# EAGLE library part 74*4040 (library 74)
12-bit asynchronous binary COUNTER
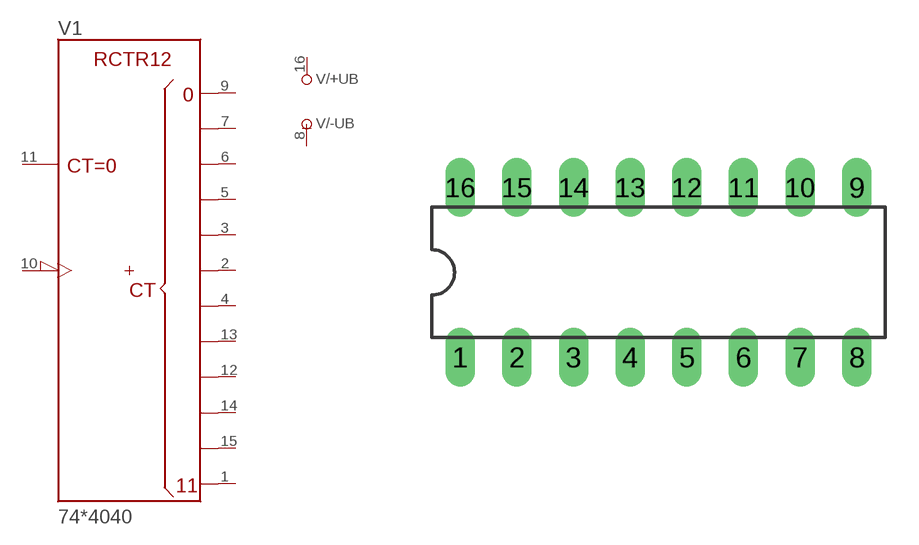
[diagram p121: symbol with the pads of DIL16; footprint DIL16]

Designator prefix V; gates /+UB=+UB /-UB=-UB 1=4040

## 744040N  [DIL16]
1  1:QL  out
2  1:QF  out
3  1:QE  out
4  1:QG  out
5  1:QD  out
6  1:QC  out
7  1:QB  out
8  /-UB:-UB  pwr
9  1:QA  out
10  1:CLK  in
11  1:CLR  in
12  1:QI  out
13  1:QH  out
14  1:QJ  out
15  1:QK  out
16  /+UB:+UB  pwr

## Footprint DIL16 (pad centres in mm)
Dual In Line Package
drill 0.813 long: 1 -8.89,-3.81; 2 -6.35,-3.81; 3 -3.81,-3.81; 4 -1.27,-3.81; 5 1.27,-3.81; 6 3.81,-3.81; 7 6.35,-3.81; 8 8.89,-3.81; 9 8.89,3.81; 10 6.35,3.81; 11 3.81,3.81; 12 1.27,3.81; 13 -1.27,3.81; 14 -3.81,3.81; 15 -6.35,3.81; 16 -8.89,3.81